# Altium schematic symbol library BLM31KN_SN-Series.SchLib: 1 symbol
Pins are listed as number, name and electrical type; pins without a type are passive.

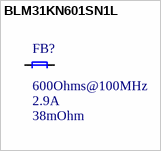
[diagram p0: symbol BLM31KN601SN1L]

## BLM31KN601SN1L
designator FB?  DCR: 38mOhm  Current: 2.9A  Impedance: 600Ohms@100MHz  (hidden comment: BLM31KN601SN1L)
600 Ohms @ 100 MHz 1 Power Line Ferrite Bead 1206 (3216 Metric) 2.9A 38mOhm; Type: BLM31KN601SN1L
footprint BLM31KN_SN_1206_C (Chip Inductor, 2-Leads, Body 3.20x1.60mm, IPC High Density)
pins: 1, 2